# EAGLE library part TSW-104-02-S-Q (library con-samtec)
THROUGH-HOLE .025" SQ POST HEADER Source: Samtec TSW.pdf
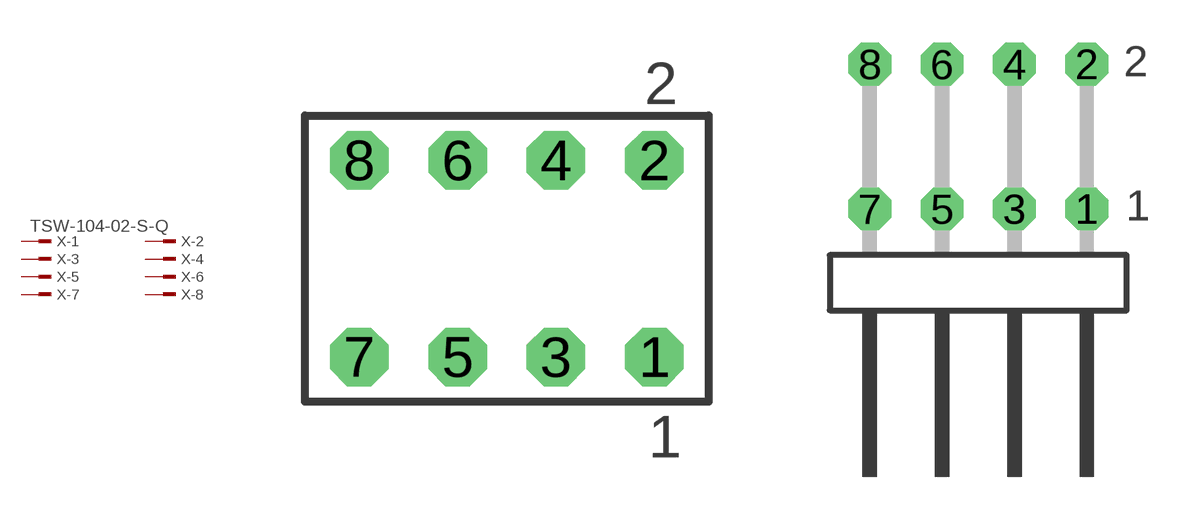
[diagram p286: symbol with the pads of TSW-104-02-S-Q; footprints TSW-104-02-S-Q, TSW-104-02-S-Q-RA]

Designator prefix X; gates -1=MPINV -2=MPIN -3=MPIN -4=MPIN -5=MPIN -6=MPIN -7=MPIN -8=MPIN

## TSW-104-02-S-Q (OC_FARNELL: unknown; OC_NEWARK: unknown)  [TSW-104-02-S-Q]
1  -1:1  pas
2  -2:1  pas
3  -3:1  pas
4  -4:1  pas
5  -5:1  pas
6  -6:1  pas
7  -7:1  pas
8  -8:1  pas

## TSW-104-02-S-Q-RA (OC_FARNELL: unknown; OC_NEWARK: unknown)  [TSW-104-02-S-Q-RA]
Pads as for TSW-104-02-S-Q

## Footprint TSW-104-02-S-Q (pad centres in mm)
THROUGH-HOLE .025" SQ POST HEADER Source: Samtec TSW.pdf
drill 1 pad 1.5 octagon: 1 3.81,-2.54; 2 3.81,2.54; 3 1.27,-2.54; 4 1.27,2.54; 5 -1.27,-2.54; 6 -1.27,2.54; 7 -3.81,-2.54; 8 -3.81,2.54

## Footprint TSW-104-02-S-Q-RA (pad centres in mm)
THROUGH-HOLE .025" SQ POST HEADER Source: Samtec TSW.pdf
drill 1 pad 1.5 octagon: 1 3.81,1.524; 2 3.81,6.604; 3 1.27,1.524; 4 1.27,6.604; 5 -1.27,1.524; 6 -1.27,6.604; 7 -3.81,1.524; 8 -3.81,6.604